# Altium footprint library OpenPLCv0.2.0_Connector.PcbLib: 22 footprints (part 2 of 2)
Each footprint in its own frame and in the unit in brackets; x right, y up, seen from the top. Pads: shape width x height; smd on the part's side, far side on the other; paste and mask are expansions set on the pad; w line width, h text height; cw(c..) or ccw(c..) is an arc to the next point about the centre after c.
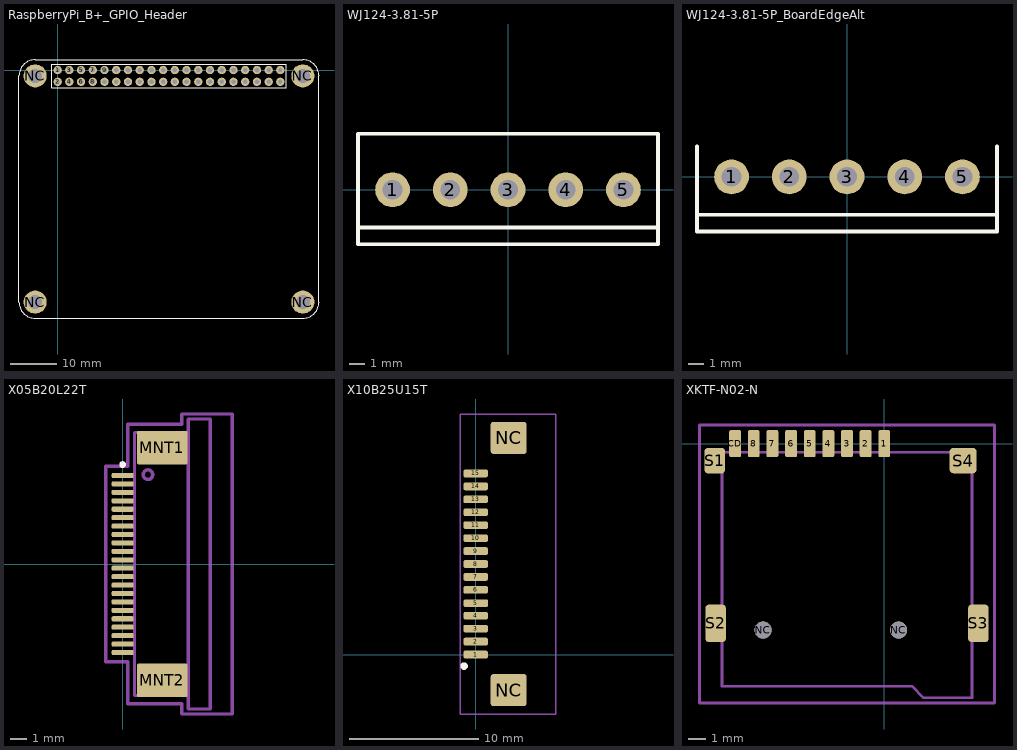
[diagram p1: the footprints below, top view; thin cyan lines are the x and y axes]

## RaspberryPi_B+_GPIO_Header [mm]
pads (44):
  round 1.8 hole 1.02: 1(0,0) 2(0,-2.54) 3(2.54,0) 4(2.54,-2.54) 5(5.08,0) 6(5.08,-2.54) 7(7.62,0) 8(7.62,-2.54) 9(10.16,0) 10(10.16,-2.54) 11(12.7,0) 12(12.7,-2.54) 13(15.24,0) 14(15.24,-2.54) 15(17.78,0) 16(17.78,-2.54) 17(20.32,0) 18(20.32,-2.54) 19(22.86,0) 20(22.86,-2.54) 21(25.4,0) 22(25.4,-2.54) 23(27.94,0) 24(27.94,-2.54) 25(30.48,0) 26(30.48,-2.54) 27(33.02,0) 28(33.02,-2.54) 29(35.56,0) 30(35.56,-2.54) 31(38.1,0) 32(38.1,-2.54) 33(40.64,0) 34(40.64,-2.54) 35(43.18,0) 36(43.18,-2.54) 37(45.72,0) 38(45.72,-2.54) 39(48.26,0) 40(48.26,-2.54)
  round 5 hole 3: NC(-4.87,-50.27) NC(-4.87,-1.27) NC(53.13,-50.27) NC(53.13,-1.27)
Top Overlay:
  lines w0.2: -8.37,-50.27 ccw(c-4.87,-50.27) -4.87,-53.77 53.13,-53.77 ccw(c53.13,-50.27) 56.63,-50.27 56.63,-1.27 ccw(c53.13,-1.27) 53.13,2.23 -4.87,2.23 ccw(c-4.87,-1.27) -8.37,-1.27 -8.37,-50.27 ; -1.27,-3.81 49.53,-3.81 49.53,1.27 -1.27,1.27 -1.27,-3.81
3D body "DW-20-09-F-D-330.stp": height 15.75, standoff -2.79, extent -1.25,-3.83 49.55,1.25

## WJ124-3.81-5P [mm] "Ningbo Kangnex Elec WJ124-3.81-5P"
pads (5):
  round 2.3 hole 1.3: 1(-7.62,0) 2(-3.81,0) 3(0,0) 4(3.81,0) 5(7.62,0)
Top Overlay:
  lines w0.25: -9.9,-2.5 9.9,-2.5 ; -9.9,-3.6 -9.9,3.7 9.9,3.7 9.9,-3.6 -9.9,-3.6
3D body "c-284392-5-b-3d.stp": height 12.7, standoff -3.4, extent -9.875,-4.1 9.675,4.1

## WJ124-3.81-5P_BoardEdgeAlt [mm] "Ningbo Kangnex Elec WJ124-3.81-5P"
pads (5):
  round 2.3 hole 1.3: 1(-7.62,0) 2(-3.81,0) 3(0,0) 4(3.81,0) 5(7.62,0)
Top Overlay:
  lines w0.25: -9.9,-2.5 9.9,-2.5 ; -9.9,2 -9.9,-3.6 9.9,-3.6 9.9,2
3D body "c-284392-5-b-3d.stp": height 12.7, standoff -3.4, extent -9.875,-4.1 9.675,4.1

## X05B20L22T [mm]
pads (24):
  rrect50% 1.3x0.3 smd: 1(0,5.25) 2(0,4.75) 3(0,4.25) 4(0,3.75) 5(0,3.25) 6(0,2.75) 7(0,2.25) 8(0,1.75) 9(0,1.25) 10(0,0.75) 11(0,0.25) 12(0,-0.25) 13(0,-0.75) 14(0,-1.25) 15(0,-1.75) 16(0,-2.25) 17(0,-2.75) 18(0,-3.25) 19(0,-3.75) 20(0,-4.25) 21(0,-4.75) 22(0,-5.25)
  rrect10% 3x2 smd: MNT1(2.35,6.9) MNT2(2.35,-6.9)
Top Overlay:
  circle w0.2: c0,5.9 r0.1
Top Assembly:
  circle w0.2: c1.5,5.3 r0.283
  lines w0.2: 3.9,-7.8 3.9,-8.6 5.2,-8.6 5.2,8.6 3.9,8.6 3.9,7.8 ; 3.9,-7.8 3.9,0 3.9,7.8 ; 3.9,-7.8 0.7,-7.8 0.7,0 0.7,7.8 3.9,7.8
Top Courtyard (Mech15):
  lines w0.2: -1,-5.8 0.3,-5.8 0.3,-8.3 3.5,-8.3 3.5,-8.9 6.5,-8.9 6.5,0 6.5,8.9 3.5,8.9 3.5,8.3 0.3,8.3 0.3,5.8 -1,5.8 -1,0 -1,-5.8
3D body: height 1.9, standoff 0.1, extent 3.9,-8.6 5.2,8.6
3D body: height 2, standoff 0, extent 0.7,-7.8 3.9,7.8

## X10B25U15T [mm] "Contact,Top 15 0.039\"(1.00mm) 0.098\"(2.50mm) Slide Lock SMD FFC, FPC Connectors RoHS"
pads (17):
  rrect50% 1.9x0.6 smd: 1(0,0) 2(0,1) 3(0,2) 4(0,3) 5(0.014,3.966) 6(0,5) 7(0,6) 8(0,7) 9(0,8) 10(0,9) 11(0,10) 12(0,11) 13(0,12) 14(0,13) 15(0,14)
  rrect20% 2.8x2.5 smd: NC(2.55,-2.75) NC(2.55,16.75)
Top Overlay:
  circle w0.3: c-0.9,-0.9 r0.141
Top Courtyard (Mech15):
  lines w0.1: -1.2,-4.6 6.2,-4.6 6.2,18.6 -1.2,18.6 -1.2,-4.6
3D body "c-1-84953-5-a-3d.stp": height 2.62, standoff -0.04, extent -0.51,-4.46 6.04,18.46

## XKTF-N02-N [mm] "XKB Enterprise XKTF-N02-N SMD Card Sockets Connectors RoHS"
pads (15):
  rrect30% 0.7x1.6 smd: 1(0,0) 2(-1.1,0) 3(-2.2,0) 4(-3.3,0) 5(-4.4,0) 6(-5.5,0) 7(-6.6,0) 8(-7.7,0) CD(-8.8,0)
  round 1 hole 1 unplated: NC(-7.15,-11) NC(0.85,-11)
  rrect30% 1.2x1.5 smd: S1(-10,-1)
  rrect30% 1.2x2.2 smd: S2(-9.95,-10.6) S3(5.55,-10.6)
  rrect30% 1.6x1.5 smd: S4(4.65,-1)
Top Assembly:
  lines w0.15: -9.575,-14.3 0.45,-14.3 1.625,-14.3 2.325,-15 5.175,-15 5.175,-0.5 -9.575,-0.5 -9.575,-14.3
Top Courtyard (Mech15):
  lines w0.2: -10.9,-15.3 6.5,-15.3 6.5,1.1 -10.9,1.1 -10.9,-15.3
3D body: height 1, standoff 0, extent -9.575,-15 5.175,-0.5